# EAGLE library part 53047-0610 (library molex-pico)
HEADER
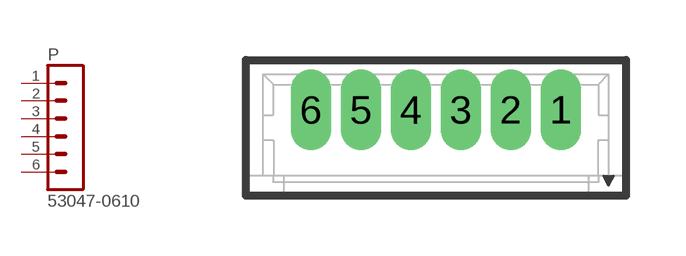
[diagram p0: symbol with the pads of 53047-0610; footprint 53047-0610]

Designator prefix P

## 53047-0610  [53047-0610]
1  1  pas
2  2  pas
3  3  pas
4  4  pas
5  5  pas
6  6  pas

## Footprint 53047-0610 (pad centres in mm)
HEADER
drill 0.508 long: 1 3.125,0; 2 1.875,0; 3 0.625,0; 4 -0.625,0; 5 -1.875,0; 6 -3.125,0